# Altium schematic symbol library CAP-POLAR_SMD.SchLib: 1 symbol
Pins are listed as number, name and electrical type; pins without a type are passive.

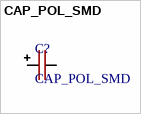
[diagram p0: symbol CAP_POL_SMD]

## CAP_POL_SMD
designator C?
footprint CAP-TAN-B
footprint CAP-TAN-B2
footprint CAP-TAN-D
footprint CAP-TAN-A
footprint CAP-TAN-X
footprint CAP-TAN-C
footprint 1000uF_10V_Size_F
footprint CAP_SMD_Size_G
footprint CAP_SMD_Size_E
footprint CAP_SMD_SIZE_H
pins: 1 +, 2 -